# Altium schematic symbol library 插针Lora模块.SCHLIB: 1 symbol
Pins are listed as number, name and electrical type; pins without a type are passive.

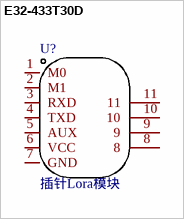
[diagram p0: symbol E32-433T30D]

## E32-433T30D
designator U?  Name: 插针Lora模块  (hidden comment: E32-433T30D)
SX1278方案Lora扩频433M无线串口模块/1W/UART; Manufacturer: EBYTE(亿佰特); Symbol: E32-TTL-1W; Add into BOM: yes; Device: E32-433T30D; LCSC Part Name: 33M无线串口模块 SX1278方案Lora扩频4 UART 1W; Supplier Part: C97351; Manufacturer Part: E32-433T30D; Supplier Footprint: 插件; JLCPCB Part Class: 扩展库; Datasheet: https://atta.szlcsc.com/upload/public/pdf/source/20170306/1488794692664.pdf; Supplier: LCSC; Convert to PCB: yes
footprint WIRELM-TH_E32-TTL-1W
3D model WIRELM-TH_L43.0-W24.0-H12.8-E32-TTL-1W
footprint WIRELM-TH_E32-TTL-1W
pins: 1 M0, 2 M1, 3 RXD, 4 TXD, 5 AUX, 6 VCC, 7 GND, 8, 9, 10, 11